# EAGLE library part INA219 (library balto)
INA219 Zero-Drift, Bi-Directional CURRENT/POWER MONITOR with I2CTM Interface
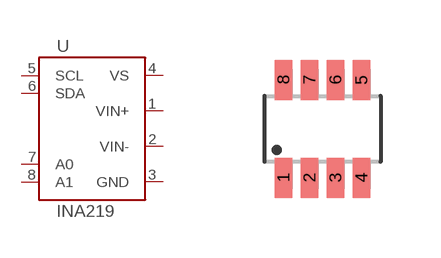
[diagram p32: symbol with the pads of SOT23-8L; footprint SOT23-8L]

Designator prefix U

## INA219  [SOT23-8L]
1  VIN+
2  VIN-
3  GND
4  VS
5  SCL
6  SDA
7  A0
8  A1

## Footprint SOT23-8L (pad centres in mm)
SC70/SOT23-8 Source: http://datasheets.maxim-ic.com/en/ds/MAX4335-MAX4338.pdf
smd 0.44 x 1: 1 -0.975,-1.225; 2 -0.325,-1.225; 3 0.325,-1.225; 4 0.975,-1.225; 5 0.975,1.225; 6 0.325,1.225; 7 -0.325,1.225; 8 -0.975,1.225